# EAGLE library part RELAY-8-SRD (library DHT111_digital_humidity_temperature_sensor)
8-Channel Relay Module based on SRD-05VDC-SL-C relays Click here to find device on ebay.com <http://www.ebay.com/sch/eight+channel+relay+module+optocoupler+5v>
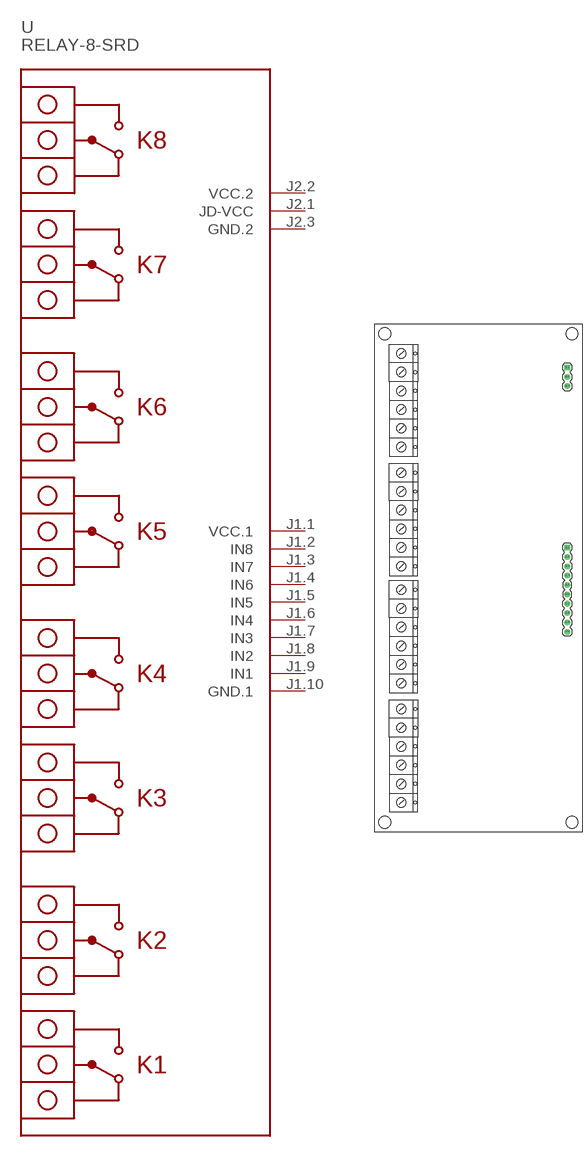
[diagram p37: symbol with the pads of RELAY-8-SRD; footprint RELAY-8-SRD]

Designator prefix -

## RELAY-8-SRD  [RELAY-8-SRD]
J1.1  VCC.1  pwr
J1.2  IN8
J1.3  IN7
J1.4  IN6
J1.5  IN5
J1.6  IN4
J1.7  IN3
J1.8  IN2
J1.9  IN1
J1.10  GND.1  pwr
J2.1  JD-VCC
J2.2  VCC.2  pwr
J2.3  GND.2  pwr

## Footprint RELAY-8-SRD (pad centres in mm)
8-Channel Relay Module based on SRD-05VDC-SL-C relays
drill 1 square: J1.1 24.13,8.255; J2.1 24.13,57.15
drill 1: J1.2 24.13,5.715; J1.3 24.13,3.175; J1.4 24.13,0.635; J1.5 24.13,-1.905; J1.6 24.13,-4.445; J1.7 24.13,-6.985; J1.8 24.13,-9.525; J1.9 24.13,-12.065; J1.10 24.13,-14.605; J2.2 24.13,54.61; J2.3 24.13,52.07
hole 3.2 at -25.4,66.294
hole 3.2 at 25.4,66.294
hole 3.2 at 25.4,-66.294
hole 3.2 at -25.4,-66.294